# Altium footprint library IS42S16.PcbLib: 1 footprints
Each footprint in its own frame and in the unit in brackets; x right, y up, seen from the top. Pads: shape width x height; smd on the part's side, far side on the other; paste and mask are expansions set on the pad; w line width, h text height; cw(c..) or ccw(c..) is an arc to the next point about the centre after c.
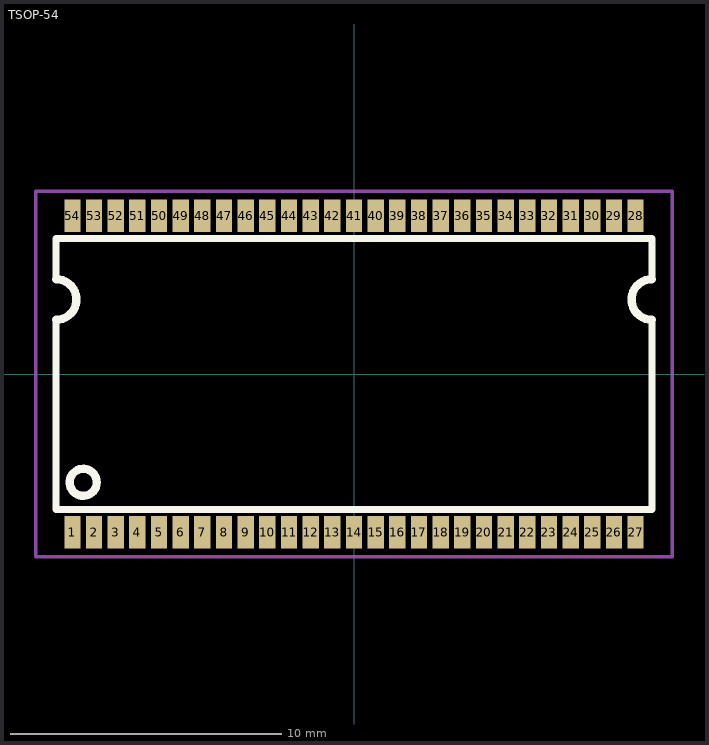
[diagram p0: the footprint, top view; thin cyan lines are the x and y axes]

## TSOP-54 [mm]
pads (54):
  rect 0.6x1.2 smd: 1(-10.4,-5.85) 2(-9.6,-5.85) 3(-8.8,-5.85) 4(-8,-5.85) 5(-7.2,-5.85) 6(-6.4,-5.85) 7(-5.6,-5.85) 8(-4.8,-5.85) 9(-4,-5.85) 10(-3.2,-5.85) 11(-2.4,-5.85) 12(-1.6,-5.85) 13(-0.8,-5.85) 14(0,-5.85) 15(0.8,-5.85) 16(1.6,-5.85) 17(2.4,-5.85) 18(3.2,-5.85) 19(4,-5.85) 20(4.8,-5.85) 21(5.6,-5.85) 22(6.4,-5.85) 23(7.2,-5.85) 24(8,-5.85) 25(8.8,-5.85) 26(9.6,-5.85) 27(10.4,-5.85) 28(10.4,5.85) 29(9.6,5.85) 30(8.8,5.85) 31(8,5.85) 32(7.2,5.85) 33(6.4,5.85) 34(5.6,5.85) 35(4.8,5.85) 36(4,5.85) 37(3.2,5.85) 38(2.4,5.85) 39(1.6,5.85) 40(0.8,5.85) 41(0,5.85) 42(-0.8,5.85) 43(-1.6,5.85) 44(-2.4,5.85) 45(-3.2,5.85) 46(-4,5.85) 47(-4.8,5.85) 48(-5.6,5.85) 49(-6.4,5.85) 50(-7.2,5.85) 51(-8,5.85) 52(-8.8,5.85) 53(-9.6,5.85) 54(-10.4,5.85)
Top Overlay:
  circle w0.305: c-10,-4 r0.5
  lines w0.254: -11,2 -11,-5 11,-5 11,2 ; -11,3.5 -11,5 11,5 11,3.5
  lines w0.305: -11,2 ccw(c-11,2.75) -11,3.5 ; 11,2 cw(c11,2.75) 11,3.5
Mechanical 1:
  lines w0.127: -11.75,-6.75 -11.75,6.75 11.75,6.75 11.75,-6.75 -11.75,-6.75
3D body "TSOP54_PIN_Package_Code_T.STEP": height 1.22, standoff -0.02, extent -11.25,-5.588 11.25,6.005
3D body: height 0.25, standoff 0, extent -5.08,0.889 -5.08,0.889
3D body: height 0.25, standoff 0, extent 0,0 0,0
3D body: height 0.25, standoff 0, extent 0,0 0,0
3D body: height 0.25, standoff 0, extent 0,0 0,0